# EAGLE library part MAX14662ETI+T (library ds_ic_peripherals)
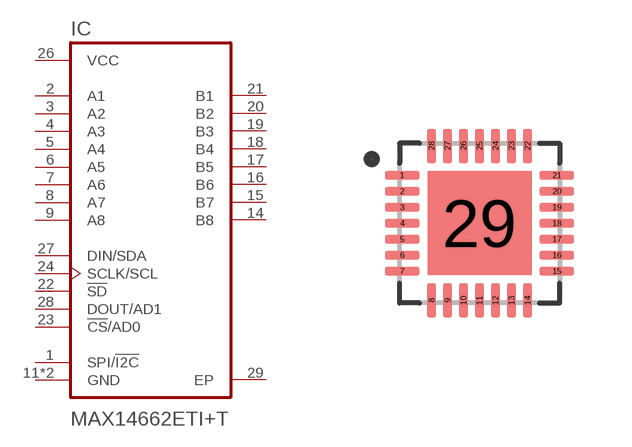
[diagram p63: symbol with the pads of TQFN28; footprint TQFN28]

Designator prefix IC

## MAX14662ETI+T (DATASHEET: https://www.analog.com/media/en/technical-documentation/data-sheets/max14662.pdf; DESCRIPTION: 8 Circuit IC Analog Switch 1:1 1Ohm 28-TQFN (4x4); LCSC_PART: C2673377; MANUFACTURER: Analog Devices Inc./Maxim Integrated; MPN: MAX14662ETI+T; ROHS: YES; VALUE: MAX14662ETI)  [TQFN28]
1  SPI/!I2C  in
2  A1
3  A2
4  A3
5  A4
6  A5
7  A6
8  A7
9  A8
11  GND  pwr
14  B8
15  B7
16  B6
17  B5
18  B4
19  B3
20  B2
21  B1
22  !SD  in
23  !CS!/AD0  in
24  SCLK/SCL  in
25  GND  pwr
26  VCC  pwr
27  DIN/SDA  in
28  DOUT/AD1  in
29  EP  pwr

## Footprint TQFN28 (pad centres in mm)
smd 0.86 x 0.22: 1 -1.935,1.2; 2 -1.935,0.8; 3 -1.935,0.4; 4 -1.935,0; 5 -1.935,-0.4; 6 -1.935,-0.8; 7 -1.935,-1.2; 15 1.935,-1.2; 16 1.935,-0.8; 17 1.935,-0.4; 18 1.935,0; 19 1.935,0.4; 20 1.935,0.8; 21 1.935,1.2
smd 0.22 x 0.86: 8 -1.2,-1.935; 9 -0.8,-1.935; 10 -0.4,-1.935; 11 0,-1.935; 12 0.4,-1.935; 13 0.8,-1.935; 14 1.2,-1.935; 22 1.2,1.935; 23 0.8,1.935; 24 0.4,1.935; 25 0,1.935; 26 -0.4,1.935; 27 -0.8,1.935; 28 -1.2,1.935
smd 2.6 x 2.6: 29 0,0